# EAGLE library part 1554ЛА2 (library std-logic-1554series)
АЕЯР.431200.182-01 ТУ 1554ЛА2 - Логический элемент "8И-НЕ". Изготовитель: ОАО "ИНТЕГРАЛ", г. Минск, р. Беларусь. Технические условия (ТБМ): АЕЯР.431200.182-01 ТУ Технические условия (не ТБМ): АЕЯР.431200.093-01 ТУ
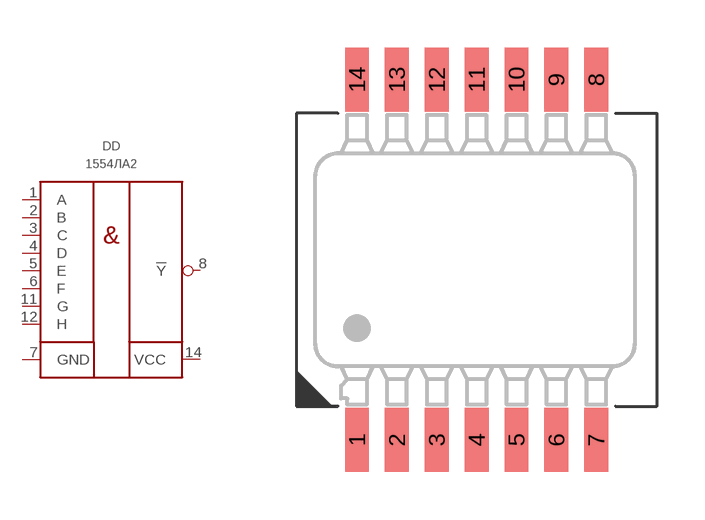
[diagram p9: symbol with the pads of 401.14-5; footprint 401.14-5]

Designator prefix DD

## 1554ЛА2ТБМ  [401.14-5]
1  A  in
2  B  in
3  C  in
4  D  in
5  E  in
6  F  in
7  GND  pwr
8  !Y  out
11  G  in
12  H  in
14  VCC  pwr

## Footprint 401.14-5 (pad centres in mm)
smd 0.75 x 2: 1 -3.7,-5.65; 2 -2.45,-5.65; 3 -1.2,-5.65; 4 0.05,-5.65; 5 1.3,-5.65; 6 2.55,-5.65; 7 3.8,-5.65; 8 3.8,5.65; 9 2.55,5.65; 10 1.3,5.65; 11 0.05,5.65; 12 -1.2,5.65; 13 -2.45,5.65; 14 -3.7,5.65